# Altium schematic symbol library thomas_lib.SchLib: 20 symbols
Pins are listed as number, name and electrical type; pins without a type are passive.

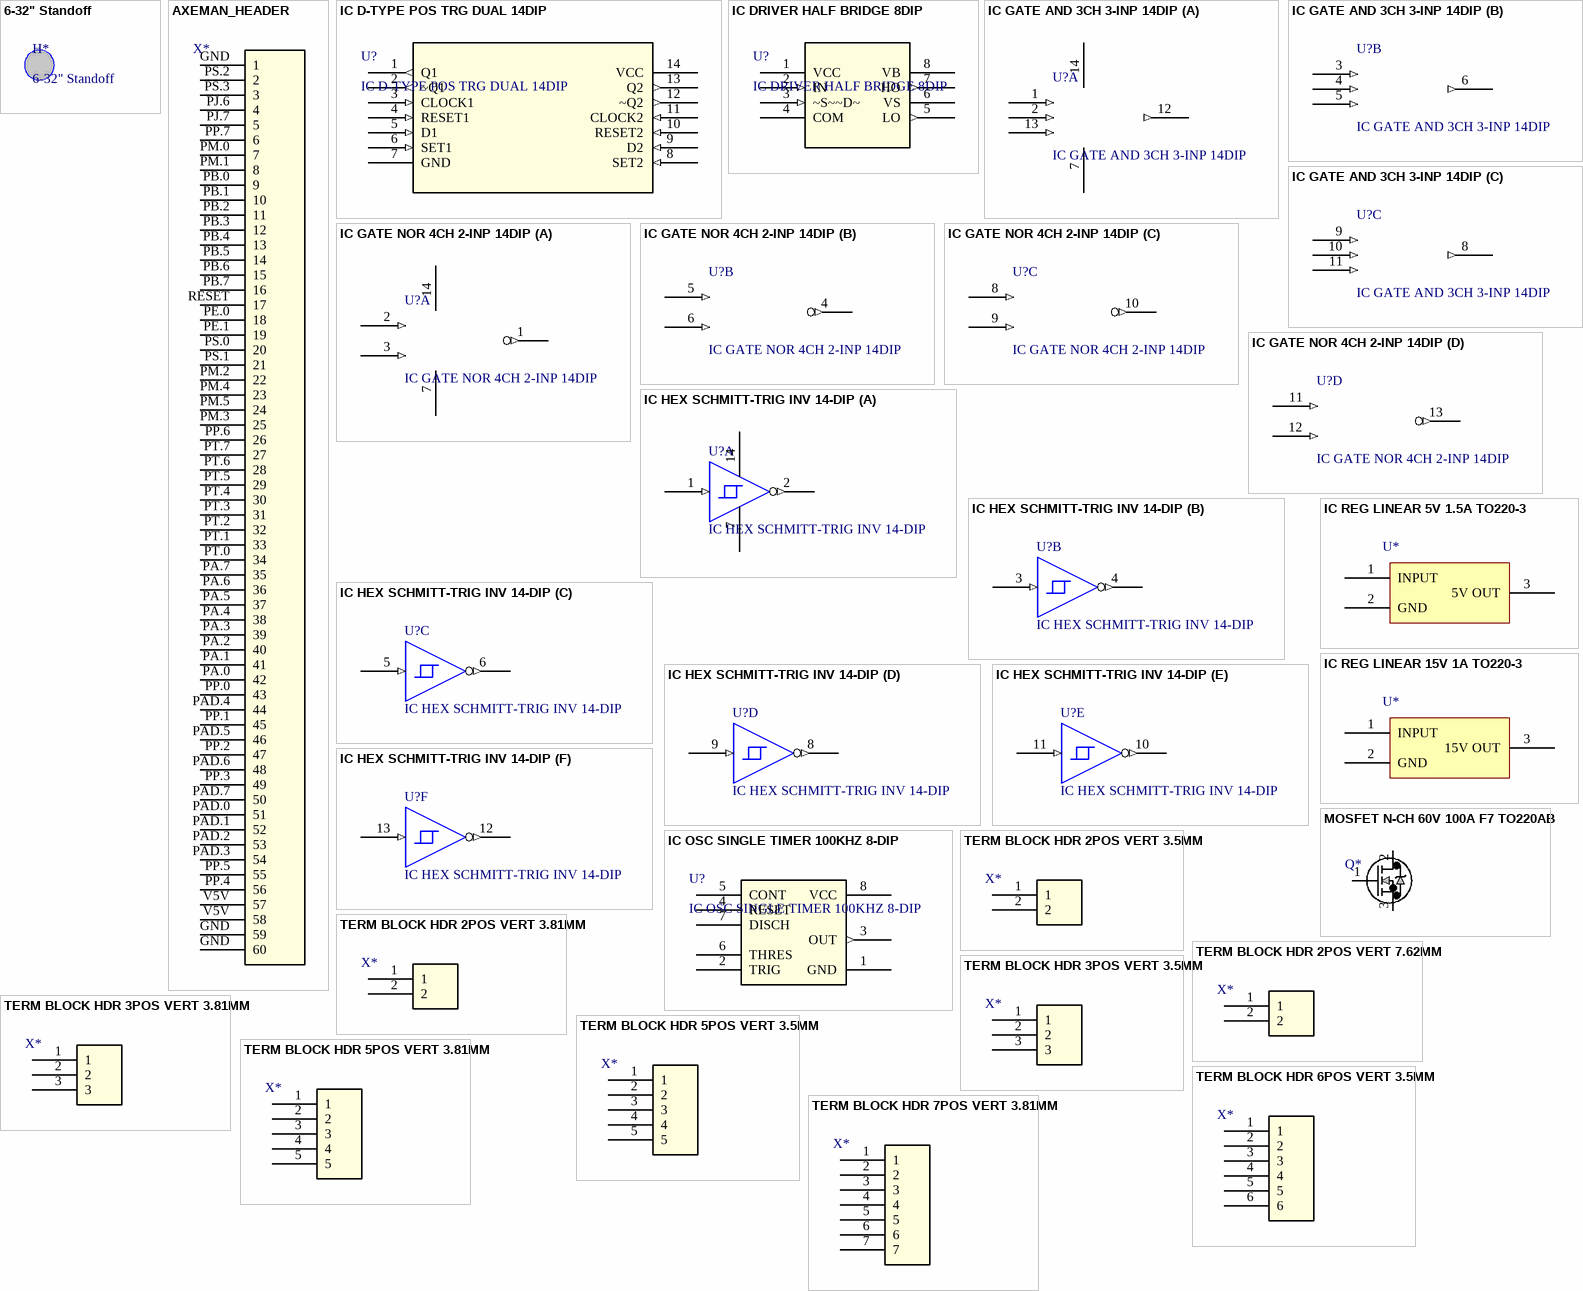
[diagram p0: symbols 6-32" Standoff to TERM BLOCK HDR 7POS VERT 3.81MM]

## 6-32" Standoff
designator H*
Mounting hole for 6-32" Standoff
footprint 6-32" Standoff (Hole for a 6-32" Standoff)

## AXEMAN_HEADER
designator X*  (value not drawn)
pins: GND 1, GND 59, GND 60, PA.0 42, PA.1 41, PA.2 40, PA.3 39, PA.4 38, PA.5 37, PA.6 36, PA.7 35, PAD.0 51, PAD.1 52, PAD.2 53, PAD.3 54, PAD.4 44, PAD.5 46, PAD.6 48, PAD.7 50, PB.0 9, PB.1 10, PB.2 11, PB.3 12, PB.4 13, PB.5 14, PB.6 15, PB.7 16, PE.0 18, PE.1 19, PJ.6 4, PJ.7 5, PM.0 7, PM.1 8, PM.2 22, PM.3 25, PM.4 23, PM.5 24, PP.0 43, PP.1 45, PP.2 47, PP.3 49, PP.4 56, PP.5 55, PP.6 26, PP.7 6, PS.0 20, PS.1 21, PS.2 2, PS.3 3, PT.0 34, PT.1 33, PT.2 32, PT.3 31, PT.4 30, PT.5 29, PT.6 28, PT.7 27, RESET 17, V5V 57, V5V 58

## IC D-TYPE POS TRG DUAL 14DIP
designator U?
Manufacturer_Part_Number: CD4013BE; Manufacturer: Texas Instruments; Digi-Key_Part_Number: 296-2033-5-ND
footprint 14-DIP
pins: 1 Q1 (out), 2 ~Q1 (out), 3 CLOCK1 (in), 4 RESET1 (in), 5 D1 (in), 6 SET1 (in), 7 GND (power), 8 SET2 (in), 9 D2 (in), 10 RESET2 (in), 11 CLOCK2 (in), 12 ~Q2 (out), 13 Q2 (out), 14 VCC (power)

## IC DRIVER HALF BRIDGE 8DIP
designator U?
Manufacturer_Part_Number: IR2109PBF; Manufacturer: Infineon Technologies; Digi-Key_Part_Number: IR2109PBF-ND
footprint 8-DIP
pins: 1 VCC (power), 2 IN (in), 3 ~S~~D~ (in), 4 COM (power), 5 LO (out), 6 VS (power), 7 HO (out), 8 VB (power)

## IC GATE AND 3CH 3-INP 14DIP
designator U?
Manufactuer_Part_Number: SN74HC11N; Manufacturer: Texas Instruments; Digi-Key_Part_Number: 296-8217-5-ND
footprint 14-DIP
part A pins: 1 1A (in), 2 1B (in), 7 GND_POWER (power), 12 1Y (out), 13 1C (in), 14 VCC (power)
part B pins: 3 2A (in), 4 2B (in), 5 2C (in), 6 2Y (out)
part C pins: 8 3Y (out), 9 3A (in), 10 3B (in), 11 3C (in)

## IC GATE NOR 4CH 2-INP 14DIP
designator U?
Manufactuer_Part_Number: SN74AHC02N; Manufacturer: Texas Instruments; Digi-Key_Part_Number: 296-4514-5-ND
footprint 14-DIP
part A pins: 1 1Y (out), 2 1A (in), 3 1B (in), 7 GND_POWER (power), 14 VCC (power)
part B pins: 4 2Y (out), 5 2A (in), 6 2B (in)
part C pins: 8 3A (in), 9 3B (in), 10 3Y (out)
part D pins: 11 4A (in), 12 4B (in), 13 4Y (out)

## IC HEX SCHMITT-TRIG INV 14-DIP
designator U?
Manufactuer_Part_Number: SN74ACT14N; Manufacturer: Texas Instruments; Digi-Key_Part_Number: 296-4368-5-ND
footprint 14-DIP
part A pins: 1 A (in), 2 Y (out), 7 GND_POWER (power), 14 VCC (power)
part B pins: 3 A (in), 4 Y (out)
part C pins: 5 A (in), 6 Y (out)
part D pins: 8 Y (out), 9 A (in)
part E pins: 10 Y (out), 11 A (in)
part F pins: 12 Y (out), 13 A (in)

## IC OSC SINGLE TIMER 100KHZ 8-DIP
designator U?
Manufacturer_Part_Number: NE555P; Manufacturer: Texas Instruments; Digi-Key_Part_Number: 296-1411-5-ND
footprint 8-DIP
pins: 1 GND (power), 2 TRIG, 3 OUT (out), 4 RESET (power), 5 CONT, 6 THRES (power), 7 DISCH, 8 VCC (power)

## IC REG LINEAR 5V 1.5A TO220-3
designator U*  (value not drawn)
Manufacturer_Part_Number: UA7805CKCS; Manufacturer: Texas Instruments; Digi-Key_Part_Number: 296-13996-5-ND
footprint TO-220
pins: 1 INPUT (power), 2 GND (power), 3 5V OUT (power)

## IC REG LINEAR 15V 1A TO220-3
designator U*  (value not drawn)
Manufacturer_Part_Number: LM340T-15/NOPB; Manufacturer: Texas Instruments; Digi-Key_Part_Number: LM340T-15/NOPB-ND
footprint TO-220
pins: 1 INPUT (power), 2 GND (power), 3 15V OUT (power)

## MOSFET N-CH 60V 100A F7 TO220AB
designator Q*  (value not drawn)
Manufacturer_Part_Number: STP100N6F7; Manufacturer: STMicroelectronics; Digi-Key_Part_Number: 497-15888-5-ND
footprint TO-220
pins: 1, 2, 3

## TERM BLOCK HDR 2POS VERT 3.5MM
designator X*  (value not drawn)
Manufacturer_Part_Number: 691321100002; Manufacturer: Wurth Electronics Inc; DigiKey_Part_Number: 732-2763-ND
footprint WR-TBL-3211 2 (TERM BLOCK HDR 2POS VERT 3.5MM)
pins: 1, 2

## TERM BLOCK HDR 2POS VERT 3.81MM
designator X*  (value not drawn)
Manufacturer_Part_Number: 1830596; Manufacturer: Phoenix Contact; DigiKey_Part_Number: 277-5775-ND
footprint MCV 2 (TERM BLOCK HDR 2POS VERT 3.81MM)
pins: 1, 2

## TERM BLOCK HDR 2POS VERT 7.62MM
designator X*  (value not drawn)
Manufacturer_Part_Number: 1804687; Manufacturer: Phoenix Contact; DigiKey_Part_Number: 277-1469-ND
footprint PCV 4-2 (TERM BLOCK HDR 2POS VERT 7.62MM)
pins: 1, 2

## TERM BLOCK HDR 3POS VERT 3.5MM
designator X*  (value not drawn)
Manufacturer_Part_Number: 691321100003; Manufacturer: Wurth Electronics Inc; DigiKey_Part_Number: 732-2764-ND
footprint WR-TBL-3211 3 (TERM BLOCK HDR 3POS VERT 3.5MM)
pins: 1, 2, 3

## TERM BLOCK HDR 3POS VERT 3.81MM
designator X*  (value not drawn)
Manufacturer_Part_Number: 1830606; Manufacturer: Phoenix Contact; DigiKey_Part_Number: 277-5778-ND
footprint MCV 3 (TERM BLOCK HDR 3POS VERT 3.81MM)
pins: 1, 2, 3

## TERM BLOCK HDR 5POS VERT 3.5MM
designator X*  (value not drawn)
Manufacturer_Part_Number: 691321100005; Manufacturer: Wurth Electronics Inc; DigiKey_Part_Number: 732-2766-ND
footprint WR-TBL-3211 5 (TERM BLOCK HDR 5POS VERT 3.5MM)
pins: 1, 2, 3, 4, 5

## TERM BLOCK HDR 5POS VERT 3.81MM
designator X*  (value not drawn)
Manufacturer_Part_Number: 1830622; Manufacturer: Phoenix Contact; DigiKey_Part_Number: 277-5801-ND
footprint MCV 5 (TERM BLOCK HDR 5POS VERT 3.81MM)
pins: 1, 2, 3, 4, 5

## TERM BLOCK HDR 6POS VERT 3.5MM
designator X*  (value not drawn)
Manufacturer_Part_Number: 691321100006; Manufacturer: Wurth Electronics Inc; DigiKey_Part_Number: 732-2767-ND
footprint WR-TBL-3211 6 (TERM BLOCK HDR 6POS VERT 3.5MM)
pins: 1, 2, 3, 4, 5, 6

## TERM BLOCK HDR 7POS VERT 3.81MM
designator X*  (value not drawn)
Manufacturer_Part_Number: 1830648; Manufacturer: Phoenix Contact; DigiKey_Part_Number: 277-6264-ND
footprint MCV 7 (TERM BLOCK HDR 7POS VERT 3.81MM\)
pins: 1, 2, 3, 4, 5, 6, 7